# Altium footprint library XFDFN-8 (1.4x1).PcbLib: 1 footprints
Each footprint in its own frame and in the unit in brackets; x right, y up, seen from the top. Pads: shape width x height; smd on the part's side, far side on the other; paste and mask are expansions set on the pad; w line width, h text height; cw(c..) or ccw(c..) is an arc to the next point about the centre after c.
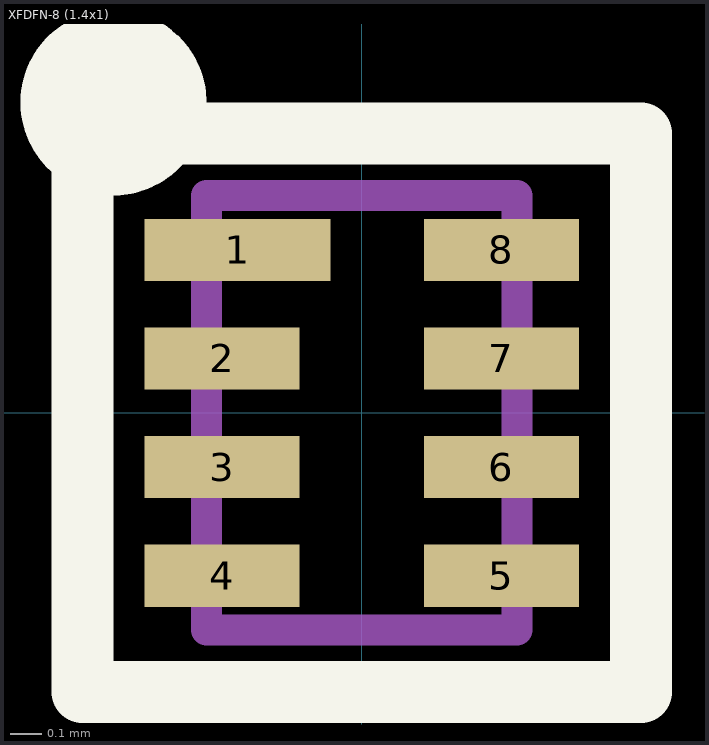
[diagram p0: the footprint, top view; thin cyan lines are the x and y axes]

## XFDFN-8 (1.4x1) [mm]
pads (8):
  rect 0.6x0.2 smd paste+0 mask+0.05: 1(-0.4,0.525)
  rect 0.5x0.2 smd paste+0 mask+0.05: 2(-0.45,0.175) 3(-0.45,-0.175) 4(-0.45,-0.525) 5(0.45,-0.525) 6(0.45,-0.175) 7(0.45,0.175) 8(0.45,0.525)
Top Overlay:
  circle w0.3: c-0.8,1 r0.15
  lines w0.2: -0.9,-0.9 0.9,-0.9 0.9,0.9 -0.9,0.9 -0.9,-0.9
Top Assembly:
  circle w0.2: c-0.8,1 r0.1
  lines w0.1: -0.5,-0.7 0.5,-0.7 0.5,0.7 -0.5,0.7 -0.5,-0.7
  text "'.Designator'" at 0,0 h0.7
3D body "XFDFN-8 (1.4x1).stp": height 0.4, standoff 0, extent -0.5,-0.7 0.5,0.7